# Altium schematic symbol library WR-WTB_2.00mm.SchLib: 70 symbols (part 2 of 2)
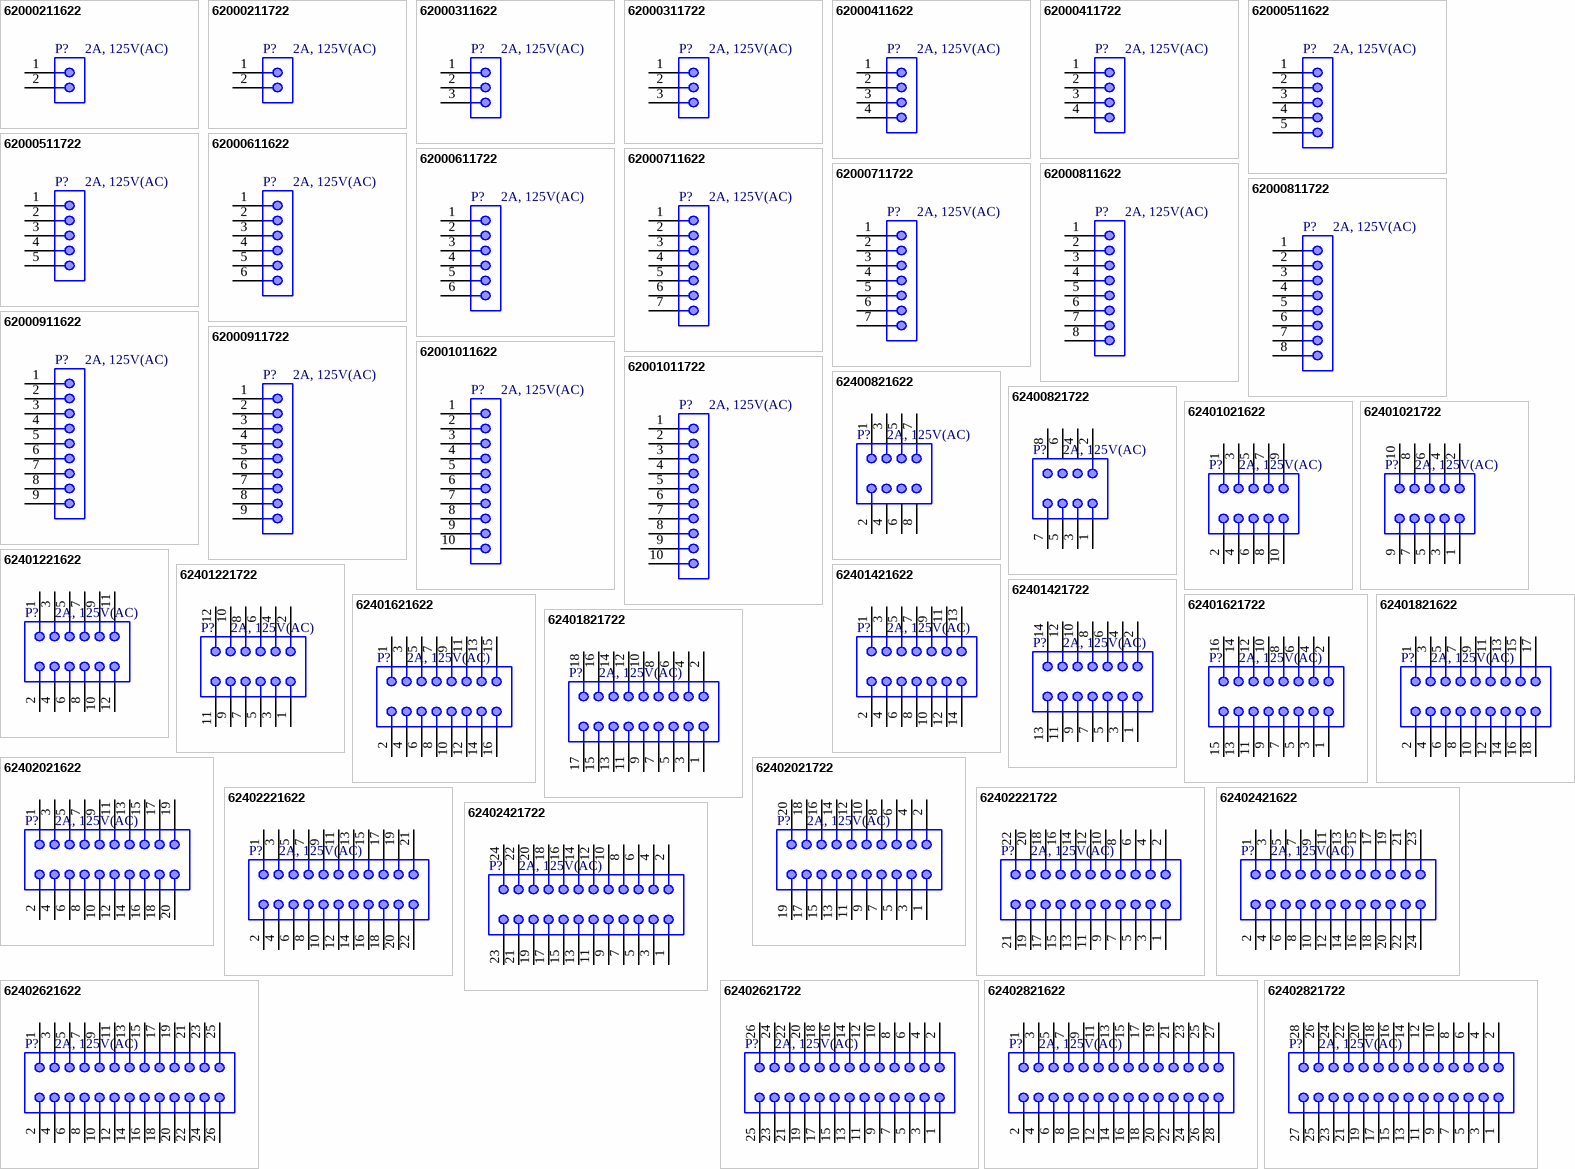
[diagram p2: symbols 62000211622 to 62402821722]

## 62402621722
designator P?, comment 2A, 125V(AC)
WR-WTB THT Male Horizontal Shrouded Header with positive locking, Dual Row, pitch 2mm, 26p; Part Number: 62402621722; Pin Number: 26; Contact Resistance: 20mOhm; Rated Current: 3A; Withstanding Voltage: 1000VAC; Working Voltage: 250VAC; ComponentLink1Description: Manufacturer; ComponentLink1URL: http://www.we-online.de; ComponentLink2Description: Datasheet; ComponentLink2URL: https://www.we-online.com/catalog/datasheet/62402621722.pdf; Pitch: 2mm; Published Date: January 2020; Publisher: Wurth Elektronik; Mounting Technology: THT; Packaging: Tube; Operating Temperature: -25 to +85degC; Gender: Male; Type: Horizontal; ComponentLink3Description: Global Supply; ComponentLink3URL: https://www.we-online.com/en/components/products/WTB_2_00_MALE_DUAL_ROW_HORIZONTAL_SHROUDED_HEADER_W_POSITIVE_LOCKING_6240XX21722?sq=62402621722#62402621722; ComponentLink4Description: Global Supply; ComponentLink4URL: https://www.mouser.vn/ProductDetail/Wurth-Elektronik/62402621722?qs=E2PpAYvlWVtxgm9luf8cXA%3D%3D; Supplier 1 Name: Mouser; Supplier 1 SN: 710-62402621722; Supplier 1 URL: https://www.mouser.vn/ProductDetail/Wurth-Elektronik/62402621722?qs=E2PpAYvlWVtxgm9luf8cXA%3D%3D; Supplier 2 Name: Digi-Key; Supplier 2 SN: N/A; Supplier 2 URL: N/A; Supplier 3 Name: thegioiic; Supplier 3 SN: N/A; Supplier 3 URL: N/A; Value: 2A, 125V(AC)
footprint 62402621722
pins: 1, 2, 3, 4, 5, 6, 7, 8, 9, 10, 11, 12, 13, 14, 15, 16, 17, 18, 19, 20, 21, 22, 23, 24, 25, 26

## 62402821622
designator P?, comment 2A, 125V(AC)
WR-WTB THT Male Vertical Shrouded Header with positive locking, Dual Row, pitch 2mm, 28p; Part Number: 62402821622; Pin Number: 28; Contact Resistance: 20mOhm; Rated Current: 3A; Withstanding Voltage: 1000VAC; Working Voltage: 250VAC; ComponentLink1Description: Manufacturer; ComponentLink1URL: http://www.we-online.de; ComponentLink2Description: Datasheet; ComponentLink2URL: https://www.we-online.com/catalog/datasheet/62402821622.pdf; Pitch: 2mm; Published Date: January 2020; Publisher: Wurth Elektronik; Mounting Technology: THT; Packaging: Tube; Operating Temperature: -25 to +85degC; Gender: Male; Type: Vertical; ComponentLink3Description: Global Supply; ComponentLink3URL: https://www.we-online.com/en/components/products/WTB_2_00_MALE_DUAL_ROW_VERTICAL_SHROUDED_HEADER_W_POSITIVE_LOCKING_6240XX21622?sq=62402821622#62402821622; ComponentLink4Description: Global Supply; ComponentLink4URL: https://www.mouser.vn/ProductDetail/Wurth-Elektronik/62402821622?qs=E2PpAYvlWVv641KfY3U4Cg%3D%3D; Supplier 1 Name: Mouser; Supplier 1 SN: 710-62402821622; Supplier 1 URL: https://www.mouser.vn/ProductDetail/Wurth-Elektronik/62402821622?qs=E2PpAYvlWVv641KfY3U4Cg%3D%3D; Supplier 2 Name: Digi-Key; Supplier 2 SN: N/A; Supplier 2 URL: N/A; Supplier 3 Name: thegioiic; Supplier 3 SN: N/A; Supplier 3 URL: N/A; Value: 2A, 125V(AC)
footprint 62402821622
pins: 1, 2, 3, 4, 5, 6, 7, 8, 9, 10, 11, 12, 13, 14, 15, 16, 17, 18, 19, 20, 21, 22, 23, 24, 25, 26, 27, 28

## 62402821722
designator P?, comment 2A, 125V(AC)
WR-WTB THT Male Horizontal Shrouded Header with positive locking, Dual Row, pitch 2mm, 28p; Part Number: 62402821722; Pin Number: 28; Contact Resistance: 20mOhm; Rated Current: 3A; Withstanding Voltage: 1000VAC; Working Voltage: 250VAC; ComponentLink1Description: Manufacturer; ComponentLink1URL: http://www.we-online.de; ComponentLink2Description: Datasheet; ComponentLink2URL: https://www.we-online.com/catalog/datasheet/62402821722.pdf; Pitch: 2mm; Published Date: January 2020; Publisher: Wurth Elektronik; Mounting Technology: THT; Packaging: Tube; Operating Temperature: -25 to +85degC; Gender: Male; Type: Horizontal; ComponentLink3Description: Global Supply; ComponentLink3URL: https://www.we-online.com/en/components/products/WTB_2_00_MALE_DUAL_ROW_HORIZONTAL_SHROUDED_HEADER_W_POSITIVE_LOCKING_6240XX21722?sq=62402821722#62402821722; ComponentLink4Description: Global Supply; ComponentLink4URL: https://www.mouser.vn/ProductDetail/Wurth-Elektronik/62402821722?qs=E2PpAYvlWVv3ea%252BrjDfuiw%3D%3D; Supplier 1 Name: Mouser; Supplier 1 SN: 710-62402821722; Supplier 1 URL: https://www.mouser.vn/ProductDetail/Wurth-Elektronik/62402821722?qs=E2PpAYvlWVv3ea%252BrjDfuiw%3D%3D; Supplier 2 Name: Digi-Key; Supplier 2 SN: N/A; Supplier 2 URL: N/A; Supplier 3 Name: thegioiic; Supplier 3 SN: N/A; Supplier 3 URL: N/A; Value: 2A, 125V(AC)
footprint 62402821722
pins: 1, 2, 3, 4, 5, 6, 7, 8, 9, 10, 11, 12, 13, 14, 15, 16, 17, 18, 19, 20, 21, 22, 23, 24, 25, 26, 27, 28

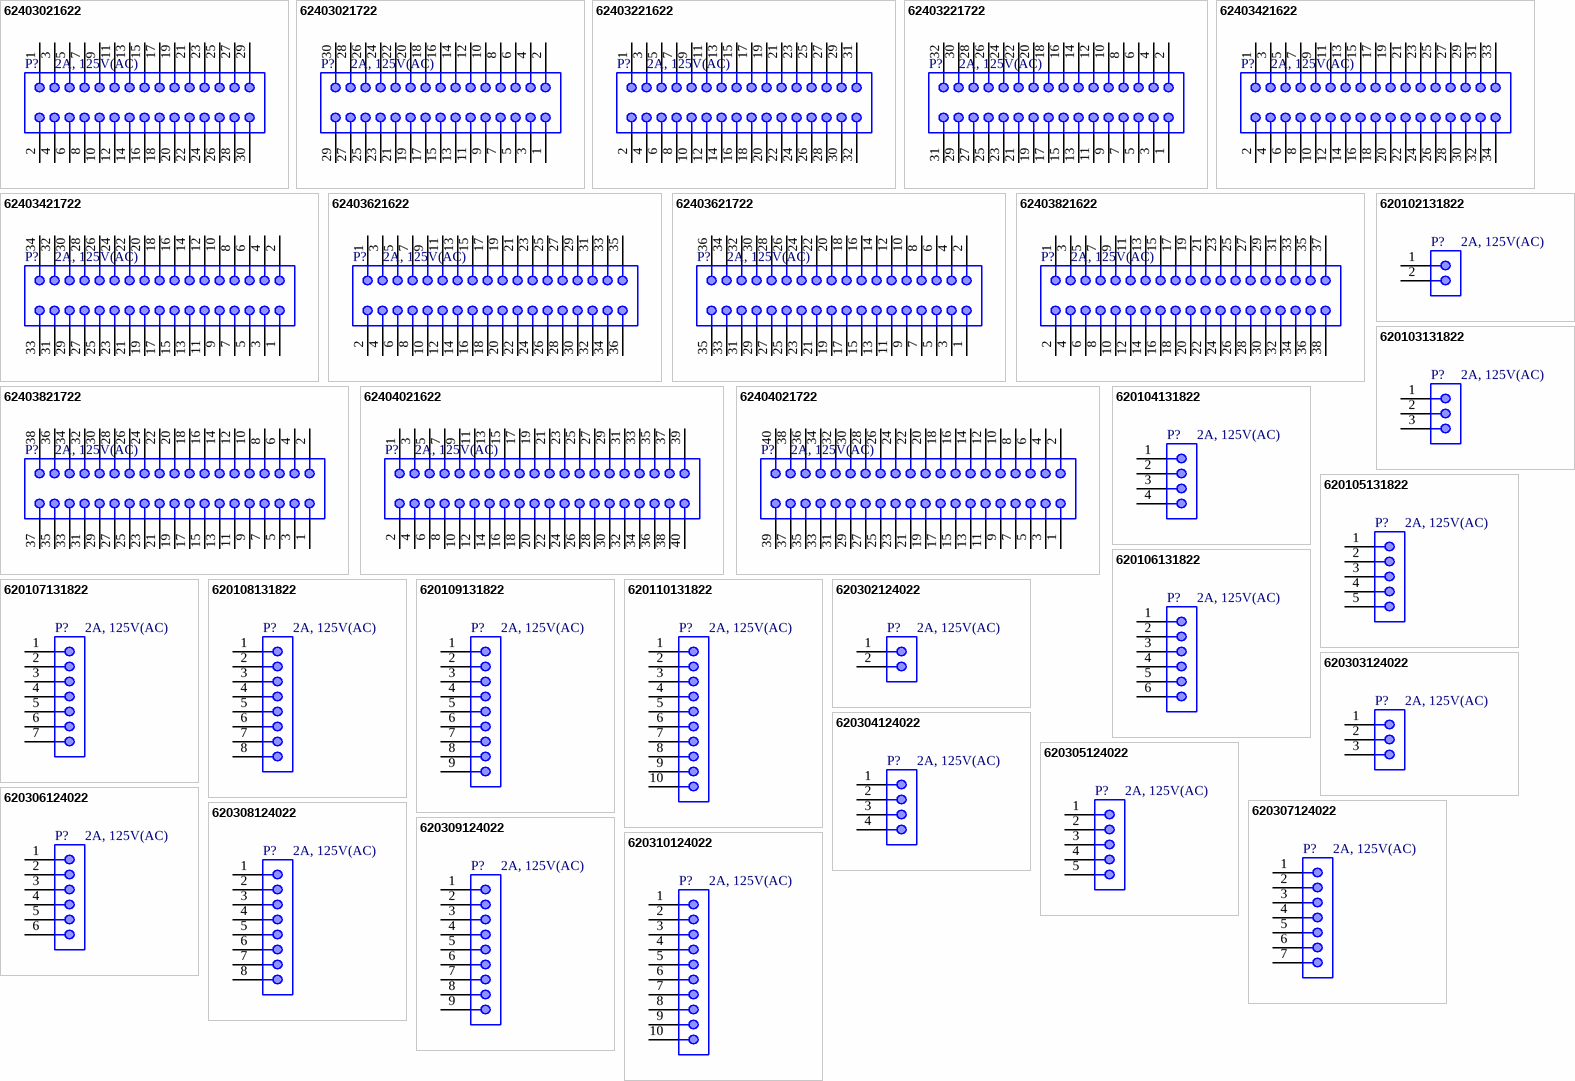
[diagram p1: symbols 62403021622 to 620310124022]

## 62403021622
designator P?, comment 2A, 125V(AC)
WR-WTB THT Male Vertical Shrouded Header with positive locking, Dual Row, pitch 2mm, 30p; Part Number: 62403021622; Pin Number: 30; Contact Resistance: 20mOhm; Rated Current: 3A; Withstanding Voltage: 1000VAC; Working Voltage: 250VAC; ComponentLink1Description: Manufacturer; ComponentLink1URL: http://www.we-online.de; ComponentLink2Description: Datasheet; ComponentLink2URL: https://www.we-online.com/catalog/datasheet/62403021622.pdf; Pitch: 2mm; Published Date: January 2020; Publisher: Wurth Elektronik; Mounting Technology: THT; Packaging: Tube; Operating Temperature: -25 to +85degC; Gender: Male; Type: Vertical; ComponentLink3Description: Global Supply; ComponentLink3URL: https://www.we-online.com/en/components/products/WTB_2_00_MALE_DUAL_ROW_VERTICAL_SHROUDED_HEADER_W_POSITIVE_LOCKING_6240XX21622?sq=62403021622#62403021622; ComponentLink4Description: Global Supply; ComponentLink4URL: https://www.mouser.vn/ProductDetail/Wurth-Elektronik/62403021622?qs=E2PpAYvlWVt5zQplzHgovA%3D%3D; Supplier 1 Name: Mouser; Supplier 1 SN: 710-62403021622; Supplier 1 URL: https://www.mouser.vn/ProductDetail/Wurth-Elektronik/62403021622?qs=E2PpAYvlWVt5zQplzHgovA%3D%3D; Supplier 2 Name: Digi-Key; Supplier 2 SN: N/A; Supplier 2 URL: N/A; Supplier 3 Name: thegioiic; Supplier 3 SN: N/A; Supplier 3 URL: N/A; Value: 2A, 125V(AC)
footprint 62403021622
pins: 1, 2, 3, 4, 5, 6, 7, 8, 9, 10, 11, 12, 13, 14, 15, 16, 17, 18, 19, 20, 21, 22, 23, 24, 25, 26, 27, 28, 29, 30

## 62403021722
designator P?, comment 2A, 125V(AC)
WR-WTB THT Male Horizontal Shrouded Header with positive locking, Dual Row, pitch 2mm, 30p; Part Number: 62403021722; Pin Number: 30; Contact Resistance: 20mOhm; Rated Current: 3A; Withstanding Voltage: 1000VAC; Working Voltage: 250VAC; ComponentLink1Description: Manufacturer; ComponentLink1URL: http://www.we-online.de; ComponentLink2Description: Datasheet; ComponentLink2URL: https://www.we-online.com/catalog/datasheet/62403021722.pdf; Pitch: 2mm; Published Date: January 2020; Publisher: Wurth Elektronik; Mounting Technology: THT; Packaging: Tube; Operating Temperature: -25 to +85degC; Gender: Male; Type: Horizontal; ComponentLink3Description: Global Supply; ComponentLink3URL: https://www.we-online.com/en/components/products/WTB_2_00_MALE_DUAL_ROW_HORIZONTAL_SHROUDED_HEADER_W_POSITIVE_LOCKING_6240XX21722?sq=62403021722#62403021722; ComponentLink4Description: Global Supply; ComponentLink4URL: https://www.mouser.vn/ProductDetail/Wurth-Elektronik/62403021722?qs=E2PpAYvlWVtn05zHywk89g%3D%3D; Supplier 1 Name: Mouser; Supplier 1 SN: 710-62403021722; Supplier 1 URL: https://www.mouser.vn/ProductDetail/Wurth-Elektronik/62403021722?qs=E2PpAYvlWVtn05zHywk89g%3D%3D; Supplier 2 Name: Digi-Key; Supplier 2 SN: N/A; Supplier 2 URL: N/A; Supplier 3 Name: thegioiic; Supplier 3 SN: N/A; Supplier 3 URL: N/A; Value: 2A, 125V(AC)
footprint 62403021722
pins: 1, 2, 3, 4, 5, 6, 7, 8, 9, 10, 11, 12, 13, 14, 15, 16, 17, 18, 19, 20, 21, 22, 23, 24, 25, 26, 27, 28, 29, 30

## 62403221622
designator P?, comment 2A, 125V(AC)
WR-WTB THT Male Vertical Shrouded Header with positive locking, Dual Row, pitch 2mm, 32p; Part Number: 62403221622; Pin Number: 32; Contact Resistance: 20mOhm; Rated Current: 3A; Withstanding Voltage: 1000VAC; Working Voltage: 250VAC; ComponentLink1Description: Manufacturer; ComponentLink1URL: http://www.we-online.de; ComponentLink2Description: Datasheet; ComponentLink2URL: https://www.we-online.com/catalog/datasheet/62403221622.pdf; Pitch: 2mm; Published Date: January 2020; Publisher: Wurth Elektronik; Mounting Technology: THT; Packaging: Tube; Operating Temperature: -25 to +85degC; Gender: Male; Type: Vertical; ComponentLink3Description: Global Supply; ComponentLink3URL: https://www.we-online.com/en/components/products/WTB_2_00_MALE_DUAL_ROW_VERTICAL_SHROUDED_HEADER_W_POSITIVE_LOCKING_6240XX21622?sq=62403221622#62403221622; ComponentLink4Description: Global Supply; ComponentLink4URL: https://www.mouser.vn/ProductDetail/Wurth-Elektronik/62403221622?qs=2kOmHSv6VfTqmjxA2Zf7fA%3D%3D; Supplier 1 Name: Mouser; Supplier 1 SN: 710-62403221622; Supplier 1 URL: https://www.mouser.vn/ProductDetail/Wurth-Elektronik/62403221622?qs=2kOmHSv6VfTqmjxA2Zf7fA%3D%3D; Supplier 2 Name: Digi-Key; Supplier 2 SN: N/A; Supplier 2 URL: N/A; Supplier 3 Name: thegioiic; Supplier 3 SN: N/A; Supplier 3 URL: N/A; Value: 2A, 125V(AC)
footprint 62403221622
pins: 1, 2, 3, 4, 5, 6, 7, 8, 9, 10, 11, 12, 13, 14, 15, 16, 17, 18, 19, 20, 21, 22, 23, 24, 25, 26, 27, 28, 29, 30, 31, 32

## 62403221722
designator P?, comment 2A, 125V(AC)
WR-WTB THT Male Horizontal Shrouded Header with positive locking, Dual Row, pitch 2mm, 32p; Part Number: 62403221722; Pin Number: 32; Contact Resistance: 20mOhm; Rated Current: 3A; Withstanding Voltage: 1000VAC; Working Voltage: 250VAC; ComponentLink1Description: Manufacturer; ComponentLink1URL: http://www.we-online.de; ComponentLink2Description: Datasheet; ComponentLink2URL: https://www.we-online.com/catalog/datasheet/62403221722.pdf; Pitch: 2mm; Published Date: January 2020; Publisher: Wurth Elektronik; Mounting Technology: THT; Packaging: Tube; Operating Temperature: -25 to +85degC; Gender: Male; Type: Horizontal; ComponentLink3Description: Global Supply; ComponentLink3URL: https://www.we-online.com/en/components/products/WTB_2_00_MALE_DUAL_ROW_HORIZONTAL_SHROUDED_HEADER_W_POSITIVE_LOCKING_6240XX21722?sq=62403221722#62403221722; ComponentLink4Description: Global Supply; ComponentLink4URL: https://www.mouser.vn/ProductDetail/Wurth-Elektronik/62403221722?qs=E2PpAYvlWVtsAhmCM%252BjOAQ%3D%3D; Supplier 1 Name: Mouser; Supplier 1 SN: 710-62403221722; Supplier 1 URL: https://www.mouser.vn/ProductDetail/Wurth-Elektronik/62403221722?qs=E2PpAYvlWVtsAhmCM%252BjOAQ%3D%3D; Supplier 2 Name: Digi-Key; Supplier 2 SN: N/A; Supplier 2 URL: N/A; Supplier 3 Name: thegioiic; Supplier 3 SN: N/A; Supplier 3 URL: N/A; Value: 2A, 125V(AC)
footprint 62403221722
pins: 1, 2, 3, 4, 5, 6, 7, 8, 9, 10, 11, 12, 13, 14, 15, 16, 17, 18, 19, 20, 21, 22, 23, 24, 25, 26, 27, 28, 29, 30, 31, 32

## 62403421622
designator P?, comment 2A, 125V(AC)
WR-WTB THT Male Vertical Shrouded Header with positive locking, Dual Row, pitch 2mm, 34p; Part Number: 62403421622; Pin Number: 34; Contact Resistance: 20mOhm; Rated Current: 3A; Withstanding Voltage: 1000VAC; Working Voltage: 250VAC; ComponentLink1Description: Manufacturer; ComponentLink1URL: http://www.we-online.de; ComponentLink2Description: Datasheet; ComponentLink2URL: https://www.we-online.com/catalog/datasheet/62403421622.pdf; Pitch: 2mm; Published Date: January 2020; Publisher: Wurth Elektronik; Mounting Technology: THT; Packaging: Tube; Operating Temperature: -25 to +85degC; Gender: Male; Type: Vertical; ComponentLink3Description: Global Supply; ComponentLink3URL: https://www.we-online.com/en/components/products/WTB_2_00_MALE_DUAL_ROW_VERTICAL_SHROUDED_HEADER_W_POSITIVE_LOCKING_6240XX21622?sq=62403421622#62403421622; ComponentLink4Description: Global Supply; ComponentLink4URL: https://www.mouser.vn/ProductDetail/Wurth-Elektronik/62403421622?qs=E2PpAYvlWVtc1VgVK8vY4g%3D%3D; Supplier 1 Name: Mouser; Supplier 1 SN: 710-62403421622; Supplier 1 URL: https://www.mouser.vn/ProductDetail/Wurth-Elektronik/62403421622?qs=E2PpAYvlWVtc1VgVK8vY4g%3D%3D; Supplier 2 Name: Digi-Key; Supplier 2 SN: N/A; Supplier 2 URL: N/A; Supplier 3 Name: thegioiic; Supplier 3 SN: N/A; Supplier 3 URL: N/A; Value: 2A, 125V(AC)
footprint 62403421622
pins: 1, 2, 3, 4, 5, 6, 7, 8, 9, 10, 11, 12, 13, 14, 15, 16, 17, 18, 19, 20, 21, 22, 23, 24, 25, 26, 27, 28, 29, 30, 31, 32, 33, 34

## 62403421722
designator P?, comment 2A, 125V(AC)
WR-WTB THT Male Horizontal Shrouded Header with positive locking, Dual Row, pitch 2mm, 34p; Part Number: 62403421722; Pin Number: 34; Contact Resistance: 20mOhm; Rated Current: 3A; Withstanding Voltage: 1000VAC; Working Voltage: 250VAC; ComponentLink1Description: Manufacturer; ComponentLink1URL: http://www.we-online.de; ComponentLink2Description: Datasheet; ComponentLink2URL: https://www.we-online.com/catalog/datasheet/62403421722.pdf; Pitch: 2mm; Published Date: January 2020; Publisher: Wurth Elektronik; Mounting Technology: THT; Packaging: Tube; Operating Temperature: -25 to +85degC; Gender: Male; Type: Horizontal; ComponentLink3Description: Global Supply; ComponentLink3URL: https://www.we-online.com/en/components/products/WTB_2_00_MALE_DUAL_ROW_HORIZONTAL_SHROUDED_HEADER_W_POSITIVE_LOCKING_6240XX21722?sq=62403421722#62403421722; ComponentLink4Description: Global Supply; ComponentLink4URL: https://www.mouser.vn/ProductDetail/Wurth-Elektronik/62403421722?qs=E2PpAYvlWVuzbyQa%252BDEmaQ%3D%3D; Supplier 1 Name: Mouser; Supplier 1 SN: 710-62403421722; Supplier 1 URL: https://www.mouser.vn/ProductDetail/Wurth-Elektronik/62403421722?qs=E2PpAYvlWVuzbyQa%252BDEmaQ%3D%3D; Supplier 2 Name: Digi-Key; Supplier 2 SN: N/A; Supplier 2 URL: N/A; Supplier 3 Name: thegioiic; Supplier 3 SN: N/A; Supplier 3 URL: N/A; Value: 2A, 125V(AC)
footprint 62403421722
pins: 1, 2, 3, 4, 5, 6, 7, 8, 9, 10, 11, 12, 13, 14, 15, 16, 17, 18, 19, 20, 21, 22, 23, 24, 25, 26, 27, 28, 29, 30, 31, 32, 33, 34

## 62403621622
designator P?, comment 2A, 125V(AC)
WR-WTB THT Male Vertical Shrouded Header with positive locking, Dual Row, pitch 2mm, 36p; Part Number: 62403621622; Pin Number: 36; Contact Resistance: 20mOhm; Rated Current: 3A; Withstanding Voltage: 1000VAC; Working Voltage: 250VAC; ComponentLink1Description: Manufacturer; ComponentLink1URL: http://www.we-online.de; ComponentLink2Description: Datasheet; ComponentLink2URL: https://www.we-online.com/catalog/datasheet/62403621622.pdf; Pitch: 2mm; Published Date: January 2020; Publisher: Wurth Elektronik; Mounting Technology: THT; Packaging: Tube; Operating Temperature: -25 to +85degC; Gender: Male; Type: Vertical; ComponentLink3Description: Global Supply; ComponentLink3URL: https://www.we-online.com/en/components/products/WTB_2_00_MALE_DUAL_ROW_VERTICAL_SHROUDED_HEADER_W_POSITIVE_LOCKING_6240XX21622?sq=62403621622#62403621622; ComponentLink4Description: Global Supply; ComponentLink4URL: https://www.mouser.vn/ProductDetail/Wurth-Elektronik/62403621622?qs=E2PpAYvlWVvAYw5bAOFHvw%3D%3D; Supplier 1 Name: Mouser; Supplier 1 SN: 710-62403621622; Supplier 1 URL: https://www.mouser.vn/ProductDetail/Wurth-Elektronik/62403621622?qs=E2PpAYvlWVvAYw5bAOFHvw%3D%3D; Supplier 2 Name: Digi-Key; Supplier 2 SN: N/A; Supplier 2 URL: N/A; Supplier 3 Name: thegioiic; Supplier 3 SN: N/A; Supplier 3 URL: N/A; Value: 2A, 125V(AC)
footprint 62403621622
pins: 1, 2, 3, 4, 5, 6, 7, 8, 9, 10, 11, 12, 13, 14, 15, 16, 17, 18, 19, 20, 21, 22, 23, 24, 25, 26, 27, 28, 29, 30, 31, 32, 33, 34, 35, 36

## 62403621722
designator P?, comment 2A, 125V(AC)
WR-WTB THT Male Horizontal Shrouded Header with positive locking, Dual Row, pitch 2mm, 36p; Part Number: 62403621722; Pin Number: 36; Contact Resistance: 20mOhm; Rated Current: 3A; Withstanding Voltage: 1000VAC; Working Voltage: 250VAC; ComponentLink1Description: Manufacturer; ComponentLink1URL: http://www.we-online.de; ComponentLink2Description: Datasheet; ComponentLink2URL: https://www.we-online.com/catalog/datasheet/62403621722.pdf; Pitch: 2mm; Published Date: January 2020; Publisher: Wurth Elektronik; Mounting Technology: THT; Packaging: Tube; Operating Temperature: -25 to +85degC; Gender: Male; Type: Horizontal; ComponentLink3Description: Global Supply; ComponentLink3URL: https://www.we-online.com/en/components/products/WTB_2_00_MALE_DUAL_ROW_HORIZONTAL_SHROUDED_HEADER_W_POSITIVE_LOCKING_6240XX21722?sq=62403621722#62403621722; ComponentLink4Description: Global Supply; ComponentLink4URL: https://www.mouser.vn/ProductDetail/Wurth-Elektronik/62403621722?qs=E2PpAYvlWVvIGoKu41xmEw%3D%3D; Supplier 1 Name: Mouser; Supplier 1 SN: 710-62403621722; Supplier 1 URL: https://www.mouser.vn/ProductDetail/Wurth-Elektronik/62403621722?qs=E2PpAYvlWVvIGoKu41xmEw%3D%3D; Supplier 2 Name: Digi-Key; Supplier 2 SN: N/A; Supplier 2 URL: N/A; Supplier 3 Name: thegioiic; Supplier 3 SN: N/A; Supplier 3 URL: N/A; Value: 2A, 125V(AC)
footprint 62403621722
pins: 1, 2, 3, 4, 5, 6, 7, 8, 9, 10, 11, 12, 13, 14, 15, 16, 17, 18, 19, 20, 21, 22, 23, 24, 25, 26, 27, 28, 29, 30, 31, 32, 33, 34, 35, 36

## 62403821622
designator P?, comment 2A, 125V(AC)
WR-WTB THT Male Vertical Shrouded Header with positive locking, Dual Row, pitch 2mm, 38p; Part Number: 62403821622; Pin Number: 38; Contact Resistance: 20mOhm; Rated Current: 3A; Withstanding Voltage: 1000VAC; Working Voltage: 250VAC; ComponentLink1Description: Manufacturer; ComponentLink1URL: http://www.we-online.de; ComponentLink2Description: Datasheet; ComponentLink2URL: https://www.we-online.com/catalog/datasheet/62403821622.pdf; Pitch: 2mm; Published Date: January 2020; Publisher: Wurth Elektronik; Mounting Technology: THT; Packaging: Tube; Operating Temperature: -25 to +85degC; Gender: Male; Type: Vertical; ComponentLink3Description: Global Supply; ComponentLink3URL: https://www.we-online.com/en/components/products/WTB_2_00_MALE_DUAL_ROW_VERTICAL_SHROUDED_HEADER_W_POSITIVE_LOCKING_6240XX21622?sq=62403821622#62403821622; ComponentLink4Description: Global Supply; ComponentLink4URL: https://www.mouser.vn/ProductDetail/Wurth-Elektronik/62403821622?qs=E2PpAYvlWVt5WbTSUsixqA%3D%3D; Supplier 1 Name: Mouser; Supplier 1 SN: 710-62403821622; Supplier 1 URL: https://www.mouser.vn/ProductDetail/Wurth-Elektronik/62403821622?qs=E2PpAYvlWVt5WbTSUsixqA%3D%3D; Supplier 2 Name: Digi-Key; Supplier 2 SN: N/A; Supplier 2 URL: N/A; Supplier 3 Name: thegioiic; Supplier 3 SN: N/A; Supplier 3 URL: N/A; Value: 2A, 125V(AC)
footprint 62403821622
pins: 1, 2, 3, 4, 5, 6, 7, 8, 9, 10, 11, 12, 13, 14, 15, 16, 17, 18, 19, 20, 21, 22, 23, 24, 25, 26, 27, 28, 29, 30, 31, 32, 33, 34, 35, 36, 37, 38

## 62403821722
designator P?, comment 2A, 125V(AC)
WR-WTB THT Male Horizontal Shrouded Header with positive locking, Dual Row, pitch 2mm, 38p; Part Number: 62403821722; Pin Number: 38; Contact Resistance: 20mOhm; Rated Current: 3A; Withstanding Voltage: 1000VAC; Working Voltage: 250VAC; ComponentLink1Description: Manufacturer; ComponentLink1URL: http://www.we-online.de; ComponentLink2Description: Datasheet; ComponentLink2URL: https://www.we-online.com/catalog/datasheet/62403821722.pdf; Pitch: 2mm; Published Date: January 2020; Publisher: Wurth Elektronik; Mounting Technology: THT; Packaging: Tube; Operating Temperature: -25 to +85degC; Gender: Male; Type: Horizontal; ComponentLink3Description: Global Supply; ComponentLink3URL: https://www.we-online.com/en/components/products/WTB_2_00_MALE_DUAL_ROW_HORIZONTAL_SHROUDED_HEADER_W_POSITIVE_LOCKING_6240XX21722?sq=62403821722#62403821722; ComponentLink4Description: Global Supply; ComponentLink4URL: https://www.mouser.vn/ProductDetail/Wurth-Elektronik/62403821722?qs=E2PpAYvlWVtfTqKNzPO8Uw%3D%3D; Supplier 1 Name: Mouser; Supplier 1 SN: 710-62403821722; Supplier 1 URL: https://www.mouser.vn/ProductDetail/Wurth-Elektronik/62403821722?qs=E2PpAYvlWVtfTqKNzPO8Uw%3D%3D; Supplier 2 Name: Digi-Key; Supplier 2 SN: N/A; Supplier 2 URL: N/A; Supplier 3 Name: thegioiic; Supplier 3 SN: N/A; Supplier 3 URL: N/A; Value: 2A, 125V(AC)
footprint 62403821722
pins: 1, 2, 3, 4, 5, 6, 7, 8, 9, 10, 11, 12, 13, 14, 15, 16, 17, 18, 19, 20, 21, 22, 23, 24, 25, 26, 27, 28, 29, 30, 31, 32, 33, 34, 35, 36, 37, 38

## 62404021622
designator P?, comment 2A, 125V(AC)
WR-WTB THT Male Vertical Shrouded Header with positive locking, Dual Row, pitch 2mm, 40p; Part Number: 62404021622; Pin Number: 40; Contact Resistance: 20mOhm; Rated Current: 3A; Withstanding Voltage: 1000VAC; Working Voltage: 250VAC; ComponentLink1Description: Manufacturer; ComponentLink1URL: http://www.we-online.de; ComponentLink2Description: Datasheet; ComponentLink2URL: https://www.we-online.com/catalog/datasheet/62404021622.pdf; Pitch: 2mm; Published Date: January 2020; Publisher: Wurth Elektronik; Mounting Technology: THT; Packaging: Tube; Operating Temperature: -25 to +85degC; Gender: Male; Type: Vertical; ComponentLink3Description: Global Supply; ComponentLink3URL: https://www.we-online.com/en/components/products/WTB_2_00_MALE_DUAL_ROW_VERTICAL_SHROUDED_HEADER_W_POSITIVE_LOCKING_6240XX21622?sq=62404021622#62404021622; ComponentLink4Description: Global Supply; ComponentLink4URL: https://www.mouser.vn/ProductDetail/Wurth-Elektronik/62403821622?qs=E2PpAYvlWVt5WbTSUsixqA%3D%3Dhttps://www.mouser.vn/ProductDetail/Wurth-Elektronik/62403821622?qs=E2PpAYvlWVt5WbTSUsixqA%3D%3Dhttps://www.mouser.vn/ProductDetail/Wurth-Elektronik/62403821622?qs=E2PpAYvlWVt5WbTSUsixqA%3D%3Dhttps://www.mouser.vn/ProductDetail/Wurth-Elektronik/62403821622?qs=E2PpAYvlWVt5WbTSUsixqA%3D%3Dhttps://www.mouser.vn/ProductDetail/Wurth-Elektronik/62403821622?qs=E2PpAYvlWVt5WbTSUsixqA%3D%3Dhttps://www.mouser.vn/ProductDetail/Wurth-Elektronik/62403821622?qs=E2PpAYvlWVt5WbTSUsixqA%3D%3Dhttps://www.mouser.vn/ProductDetail/Wurth-Elektronik/62403821622?qs=E2PpAYvlWVt5WbTSUsixqA%3D%3Dhttps://www.mouser.vn/ProductDetail/Wurth-Elektronik/62403821622?qs=E2PpAYvlWVt5WbTSUsixqA%3D%3Dhttps://www.mouser.vn/ProductDetail/Wurth-Elektronik/62403821622?qs=E2PpAYvlWVt5WbTSUsixqA%3D%3Dhttps://www.mouser.vn/ProductDetail/Wurth-Elektronik/62403821622?qs=E2PpAYvlWVt5WbTSUsixqA%3D%3Dhttps://www.mouser.vn/ProductDetail/Wurth-Elektronik/62403821622?qs=E2PpAYvlWVt5WbTSUsixqA%3D%3Dhttps://www.mouser.vn/ProductDetail/Wurth-Elektronik/62403821622?qs=E2PpAYvlWVt5WbTSUsixqA%3D%3Dhttps://www.mouser.vn/ProductDetail/Wurth-Elektronik/62403821622?qs=E2PpAYvlWVt5WbTSUsixqA%3D%3D; Supplier 1 Name: Mouser; Supplier 1 SN: 710-62403821622; Supplier 1 URL: https://www.mouser.vn/ProductDetail/Wurth-Elektronik/62403821622?qs=E2PpAYvlWVt5WbTSUsixqA%3D%3D; Supplier 2 Name: Digi-Key; Supplier 2 SN: N/A; Supplier 2 URL: N/A; Supplier 3 Name: thegioiic; Supplier 3 SN: N/A; Supplier 3 URL: N/A; Value: 2A, 125V(AC)
footprint 62404021622
pins: 1, 2, 3, 4, 5, 6, 7, 8, 9, 10, 11, 12, 13, 14, 15, 16, 17, 18, 19, 20, 21, 22, 23, 24, 25, 26, 27, 28, 29, 30, 31, 32, 33, 34, 35, 36, 37, 38, 39, 40

## 62404021722
designator P?, comment 2A, 125V(AC)
WR-WTB THT Male Horizontal Shrouded Header with positive locking, Dual Row, pitch 2mm, 40p; Part Number: 62404021722; Pin Number: 40; Contact Resistance: 20mOhm; Rated Current: 3A; Withstanding Voltage: 1000VAC; Working Voltage: 250VAC; ComponentLink1Description: Manufacturer; ComponentLink1URL: http://www.we-online.de; ComponentLink2Description: Datasheet; ComponentLink2URL: https://www.we-online.com/catalog/datasheet/62404021722.pdf; Pitch: 2mm; Published Date: January 2020; Publisher: Wurth Elektronik; Mounting Technology: THT; Packaging: Tube; Operating Temperature: -25 to +85degC; Gender: Male; Type: Horizontal; ComponentLink3Description: Global Supply; ComponentLink3URL: https://www.we-online.com/en/components/products/WTB_2_00_MALE_DUAL_ROW_HORIZONTAL_SHROUDED_HEADER_W_POSITIVE_LOCKING_6240XX21722?sq=62404021722#62404021722; ComponentLink4Description: Local Supply; ComponentLink4URL: https://www.mouser.vn/ProductDetail/Wurth-Elektronik/62404021722?qs=E2PpAYvlWVu8c5h%2F6qYDyA%3D%3D; Supplier 1 Name: Mouser; Supplier 1 SN: 710-62404021722; Supplier 1 URL: https://www.mouser.vn/ProductDetail/Wurth-Elektronik/62404021722?qs=E2PpAYvlWVu8c5h%2F6qYDyA%3D%3D; Supplier 2 Name: Digi-Key; Supplier 2 SN: N/A; Supplier 2 URL: N/A; Supplier 3 Name: thegioiic; Supplier 3 SN: N/A; Supplier 3 URL: N/A; Value: 2A, 125V(AC)
footprint 62404021722
pins: 1, 2, 3, 4, 5, 6, 7, 8, 9, 10, 11, 12, 13, 14, 15, 16, 17, 18, 19, 20, 21, 22, 23, 24, 25, 26, 27, 28, 29, 30, 31, 32, 33, 34, 35, 36, 37, 38, 39, 40

## 620102131822
designator P?, comment 2A, 125V(AC)
WR-WTB SMT Male Horizontal Shrouded Header, pitch 2mm, 2p; Part Number: 620102131822; Pin Number: 2; Contact Resistance: 20mOhm; Withstanding Voltage: 800VAC; Working Voltage: 100VAC; ComponentLink1Description: Manufacturer; ComponentLink1URL: http://www.we-online.de; ComponentLink2Description: Datasheet; ComponentLink2URL: https://www.we-online.com/catalog/datasheet/620102131822.pdf; Pitch: 2mm; Published Date: January 2020; Publisher: Wurth Elektronik; Mounting Technology: SMT; Packaging: Tape and Reel; Operating Temperature: -25 to +85degC; Gender: Male; Type: Horizontal; Rated Current: 2A; ComponentLink3Description: Global Supply; ComponentLink3URL: https://www.we-online.com/en/components/products/WTB_2_00_SMT_MALE_HORIZONTAL_SHROUDED_HEADER_6201XX131822?sq=620102131822#620102131822; ComponentLink4Description: Global Supply; ComponentLink4URL: https://www.mouser.vn/ProductDetail/Wurth-Elektronik/620102131822?qs=ZtY9WdtwX54K2dkLvxjzuQ%3D%3D; Supplier 1 Name: Mouser; Supplier 1 SN: 710-620102131822; Supplier 1 URL: https://www.mouser.vn/ProductDetail/Wurth-Elektronik/620102131822?qs=ZtY9WdtwX54K2dkLvxjzuQ%3D%3D; Supplier 2 Name: Digi-Key; Supplier 2 SN: N/A; Supplier 2 URL: N/A; Supplier 3 Name: thegioiic; Supplier 3 SN: N/A; Supplier 3 URL: N/A; Value: 2A, 125V(AC)
footprint 620102131822
pins: 1, 2

## 620103131822
designator P?, comment 2A, 125V(AC)
WR-WTB SMT Male Horizontal Shrouded Header, pitch 2mm, 3p; Part Number: 620103131822; Pin Number: 3; Contact Resistance: 20mOhm; Withstanding Voltage: 800VAC; Working Voltage: 100VAC; ComponentLink1Description: Manufacturer; ComponentLink1URL: http://www.we-online.de; ComponentLink2Description: Datasheet; ComponentLink2URL: https://www.we-online.com/catalog/datasheet/620103131822.pdf; Pitch: 2mm; Published Date: January 2020; Publisher: Wurth Elektronik; Mounting Technology: SMT; Packaging: Tape and Reel; Operating Temperature: -25 to +85degC; Gender: Male; Type: Horizontal; Rated Current: 2A; ComponentLink3Description: Global Supply; ComponentLink3URL: https://www.we-online.com/en/components/products/WTB_2_00_SMT_MALE_HORIZONTAL_SHROUDED_HEADER_6201XX131822?sq=620103131822#620103131822; ComponentLink4Description: Global Supply; ComponentLink4URL: https://www.mouser.vn/ProductDetail/Wurth-Elektronik/620103131822?qs=ZtY9WdtwX54jBicvPVEzcw%3D%3D; Supplier 1 Name: Mouser; Supplier 1 SN: 710-620103131822; Supplier 1 URL: https://www.mouser.vn/ProductDetail/Wurth-Elektronik/620103131822?qs=ZtY9WdtwX54jBicvPVEzcw%3D%3D; Supplier 2 Name: Digi-Key; Supplier 2 SN: N/A; Supplier 2 URL: N/A; Supplier 3 Name: thegioiic; Supplier 3 SN: N/A; Supplier 3 URL: N/A; Value: 2A, 125V(AC)
footprint 620103131822
pins: 1, 2, 3

## 620104131822
designator P?, comment 2A, 125V(AC)
WR-WTB SMT Male Horizontal Shrouded Header, pitch 2mm, 4p; Part Number: 620104131822; Pin Number: 4; Contact Resistance: 20mOhm; Withstanding Voltage: 800VAC; Working Voltage: 100VAC; ComponentLink1Description: Manufacturer; ComponentLink1URL: http://www.we-online.de; ComponentLink2Description: Datasheet; ComponentLink2URL: https://www.we-online.com/catalog/datasheet/620104131822.pdf; Pitch: 2mm; Published Date: January 2020; Publisher: Wurth Elektronik; Mounting Technology: SMT; Packaging: Tape and Reel; Operating Temperature: -25 to +85degC; Gender: Male; Type: Horizontal; Rated Current: 2A; ComponentLink3Description: Global Supply; ComponentLink3URL: https://www.we-online.com/en/components/products/WTB_2_00_SMT_MALE_HORIZONTAL_SHROUDED_HEADER_6201XX131822?sq=620104131822#620104131822; ComponentLink4Description: Global Supply; ComponentLink4URL: https://www.mouser.vn/ProductDetail/Wurth-Elektronik/620104131822?qs=ZtY9WdtwX57A7D%2FbILyVEQ%3D%3D; Supplier 1 Name: Mouser; Supplier 1 SN: 710-620104131822; Supplier 1 URL: https://www.mouser.vn/ProductDetail/Wurth-Elektronik/620104131822?qs=ZtY9WdtwX57A7D%2FbILyVEQ%3D%3D; Supplier 2 Name: Digi-Key; Supplier 2 SN: N/A; Supplier 2 URL: N/A; Supplier 3 Name: thegioiic; Supplier 3 SN: N/A; Supplier 3 URL: N/A; Value: 2A, 125V(AC)
footprint 620104131822
pins: 1, 2, 3, 4

## 620105131822
designator P?, comment 2A, 125V(AC)
WR-WTB SMT Male Horizontal Shrouded Header, pitch 2mm, 5p; Part Number: 620105131822; Pin Number: 5; Contact Resistance: 20mOhm; Withstanding Voltage: 800VAC; Working Voltage: 100VAC; ComponentLink1Description: Manufacturer; ComponentLink1URL: http://www.we-online.de; ComponentLink2Description: Datasheet; ComponentLink2URL: https://www.we-online.com/catalog/datasheet/620105131822.pdf; Pitch: 2mm; Published Date: January 2020; Publisher: Wurth Elektronik; Mounting Technology: SMT; Packaging: Tape and Reel; Operating Temperature: -25 to +85degC; Gender: Male; Type: Horizontal; Rated Current: 2A; ComponentLink3Description: Global Supply; ComponentLink3URL: https://www.we-online.com/en/components/products/WTB_2_00_SMT_MALE_HORIZONTAL_SHROUDED_HEADER_6201XX131822?sq=620105131822#620105131822; ComponentLink4Description: Global Supply; ComponentLink4URL: https://www.mouser.vn/ProductDetail/Wurth-Elektronik/620105131822?qs=ZtY9WdtwX54F%2Fgkpjaf7GA%3D%3D; Supplier 1 Name: Mouser; Supplier 1 SN: 710-620105131822; Supplier 1 URL: https://www.mouser.vn/ProductDetail/Wurth-Elektronik/620105131822?qs=ZtY9WdtwX54F%2Fgkpjaf7GA%3D%3D; Supplier 2 Name: Digi-Key; Supplier 2 SN: N/A; Supplier 2 URL: N/A; Supplier 3 Name: thegioiic; Supplier 3 SN: N/A; Supplier 3 URL: N/A; Value: 2A, 125V(AC)
footprint 620105131822
pins: 1, 2, 3, 4, 5

## 620106131822
designator P?, comment 2A, 125V(AC)
WR-WTB SMT Male Horizontal Shrouded Header, pitch 2mm, 6p; Part Number: 620106131822; Pin Number: 6; Contact Resistance: 20mOhm; Withstanding Voltage: 800VAC; Working Voltage: 100VAC; ComponentLink1Description: Manufacturer; ComponentLink1URL: http://www.we-online.de; ComponentLink2Description: Datasheet; ComponentLink2URL: https://www.we-online.com/catalog/datasheet/620106131822.pdf; Pitch: 2mm; Published Date: January 2020; Publisher: Wurth Elektronik; Mounting Technology: SMT; Packaging: Tape and Reel; Operating Temperature: -25 to +85degC; Gender: Male; Type: Horizontal; Rated Current: 2A; ComponentLink3Description: Global Supply; ComponentLink3URL: https://www.we-online.com/en/components/products/WTB_2_00_SMT_MALE_HORIZONTAL_SHROUDED_HEADER_6201XX131822?sq=620106131822#620106131822; Parameter 1: *; Parameter 2: *; Parameter 3: *; Supplier 1 Name: Mouser; Supplier 1 SN: N/A; Supplier 1 URL: N/A; Supplier 2 Name: Digi-Key; Supplier 2 SN: N/A; Supplier 2 URL: N/A; Supplier 3 Name: thegioiic; Supplier 3 SN: N/A; Supplier 3 URL: N/A; Value: 2A, 125V(AC)
footprint 620106131822
pins: 1, 2, 3, 4, 5, 6

## 620107131822
designator P?, comment 2A, 125V(AC)
WR-WTB SMT Male Horizontal Shrouded Header, pitch 2mm, 7p; Part Number: 620107131822; Pin Number: 7; Contact Resistance: 20mOhm; Withstanding Voltage: 800VAC; Working Voltage: 100VAC; ComponentLink1Description: Manufacturer; ComponentLink1URL: http://www.we-online.de; ComponentLink2Description: Datasheet; ComponentLink2URL: https://www.we-online.com/catalog/datasheet/620107131822.pdf; Pitch: 2mm; Published Date: January 2020; Publisher: Wurth Elektronik; Mounting Technology: SMT; Packaging: Tape and Reel; Operating Temperature: -25 to +85degC; Gender: Male; Type: Horizontal; Rated Current: 2A; ComponentLink3Description: Global Supply; ComponentLink3URL: https://www.we-online.com/en/components/products/WTB_2_00_SMT_MALE_HORIZONTAL_SHROUDED_HEADER_6201XX131822?sq=620107131822#620107131822; Supplier 1 Name: Mouser; Supplier 1 SN: N/A; Supplier 1 URL: N/A; Supplier 2 Name: Digi-Key; Supplier 2 SN: N/A; Supplier 2 URL: N/A; Supplier 3 Name: thegioiic; Supplier 3 SN: N/A; Supplier 3 URL: N/A; Value: 2A, 125V(AC)
footprint 620107131822
pins: 1, 2, 3, 4, 5, 6, 7

## 620108131822
designator P?, comment 2A, 125V(AC)
WR-WTB SMT Male Horizontal Shrouded Header, pitch 2mm, 8p; Part Number: 620108131822; Pin Number: 8; Contact Resistance: 20mOhm; Withstanding Voltage: 800VAC; Working Voltage: 100VAC; ComponentLink1Description: Manufacturer; ComponentLink1URL: http://www.we-online.de; ComponentLink2Description: Datasheet; ComponentLink2URL: https://www.we-online.com/catalog/datasheet/620108131822.pdf; Pitch: 2mm; Published Date: January 2020; Publisher: Wurth Elektronik; Mounting Technology: SMT; Packaging: Tape and Reel; Operating Temperature: -25 to +85degC; Gender: Male; Type: Horizontal; Rated Current: 2A; ComponentLink3Description: Global Supply; ComponentLink3URL: https://www.we-online.com/en/components/products/WTB_2_00_SMT_MALE_HORIZONTAL_SHROUDED_HEADER_6201XX131822?sq=620108131822#620108131822; Supplier 1 Name: Mouser; Supplier 1 SN: N/A; Supplier 1 URL: N/A; Supplier 2 Name: Digi-Key; Supplier 2 SN: N/A; Supplier 2 URL: N/A; Supplier 3 Name: thegioiic; Supplier 3 SN: N/A; Supplier 3 URL: N/A; Value: 2A, 125V(AC)
footprint 620108131822
pins: 1, 2, 3, 4, 5, 6, 7, 8

## 620109131822
designator P?, comment 2A, 125V(AC)
WR-WTB SMT Male Horizontal Shrouded Header, pitch 2mm, 9p; Part Number: 620109131822; Pin Number: 9; Contact Resistance: 20mOhm; Withstanding Voltage: 800VAC; Working Voltage: 100VAC; ComponentLink1Description: Manufacturer; ComponentLink1URL: http://www.we-online.de; ComponentLink2Description: Datasheet; ComponentLink2URL: https://www.we-online.com/catalog/datasheet/620109131822.pdf; Pitch: 2mm; Published Date: January 2020; Publisher: Wurth Elektronik; Mounting Technology: SMT; Packaging: Tape and Reel; Operating Temperature: -25 to +85degC; Gender: Male; Type: Horizontal; Rated Current: 2A; ComponentLink3Description: Global Supply; ComponentLink3URL: https://www.we-online.com/en/components/products/WTB_2_00_SMT_MALE_HORIZONTAL_SHROUDED_HEADER_6201XX131822?sq=620109131822#620109131822; Supplier 1 Name: Mouser; Supplier 1 SN: N/A; Supplier 1 URL: N/A; Supplier 2 Name: Digi-Key; Supplier 2 SN: N/A; Supplier 2 URL: N/A; Supplier 3 Name: thegioiic; Supplier 3 SN: N/A; Supplier 3 URL: N/A; Value: 2A, 125V(AC)
footprint 620109131822
pins: 1, 2, 3, 4, 5, 6, 7, 8, 9

## 620110131822
designator P?, comment 2A, 125V(AC)
WR-WTB SMT Male Horizontal Shrouded Header, pitch 2mm, 10p; Part Number: 620110131822; Pin Number: 10; Contact Resistance: 20mOhm; Withstanding Voltage: 800VAC; Working Voltage: 100VAC; ComponentLink1Description: Manufacturer; ComponentLink1URL: http://www.we-online.de; ComponentLink2Description: Datasheet; ComponentLink2URL: https://www.we-online.com/catalog/datasheet/620110131822.pdf; Pitch: 2mm; Published Date: January 2020; Publisher: Wurth Elektronik; Mounting Technology: SMT; Packaging: Tape and Reel; Operating Temperature: -25 to +85degC; Gender: Male; Type: Horizontal; Rated Current: 2A; ComponentLink3Description: Global Supply; ComponentLink3URL: https://www.we-online.com/en/components/products/WTB_2_00_SMT_MALE_HORIZONTAL_SHROUDED_HEADER_6201XX131822?sq=620110131822#620110131822; Supplier 1 Name: Mouser; Supplier 1 SN: N/A; Supplier 1 URL: N/A; Supplier 2 Name: Digi-Key; Supplier 2 SN: N/A; Supplier 2 URL: N/A; Supplier 3 Name: thegioiic; Supplier 3 SN: N/A; Supplier 3 URL: N/A; Value: 2A, 125V(AC)
footprint 620110131822
pins: 1, 2, 3, 4, 5, 6, 7, 8, 9, 10

## 620302124022
designator P?, comment 2A, 125V(AC)
WR-WTB SMT Male Vertical Shrouded Header, pitch 2mm, 2p; Part Number: 620302124022; Pin Number: 2; Contact Resistance: 20mOhm; Withstanding Voltage: 800VAC; Working Voltage: 100VAC; ComponentLink1Description: Manufacturer; ComponentLink1URL: http://www.we-online.de; ComponentLink2Description: Datasheet; ComponentLink2URL: https://www.we-online.com/catalog/datasheet/620302124022.pdf; Pitch: 2mm; Published Date: January 2020; Publisher: Wurth Elektronik; Mounting Technology: SMT; Packaging: Tape and Reel; Operating Temperature: -25 to +85degC; Gender: Male; Type: Vertical; Rated Current: 2A; ComponentLink3Description: Global Supply; ComponentLink3URL: https://www.we-online.com/en/components/products/WTB_2_00_SMT_MALE_VERTICAL_SHROUDED_HEADER_6203XX124022?sq=620302124022#620302124022; ComponentLink4Description: Global Supply; ComponentLink4URL: https://www.mouser.vn/ProductDetail/Wurth-Elektronik/620302124022?qs=ZtY9WdtwX56bKCHoSxh6%252Bg%3D%3D; Supplier 1 Name: Mouser; Supplier 1 SN: 710-620302124022; Supplier 1 URL: https://www.mouser.vn/ProductDetail/Wurth-Elektronik/620302124022?qs=ZtY9WdtwX56bKCHoSxh6%252Bg%3D%3D; Supplier 2 Name: Digi-Key; Supplier 2 SN: N/A; Supplier 2 URL: N/A; Supplier 3 Name: thegioiic; Supplier 3 SN: N/A; Supplier 3 URL: N/A; Value: 2A, 125V(AC)
footprint 620302124022
pins: 1, 2

## 620303124022
designator P?, comment 2A, 125V(AC)
WR-WTB SMT Male Vertical Shrouded Header, pitch 2mm, 3p; Part Number: 620303124022; Pin Number: 3; Contact Resistance: 20mOhm; Withstanding Voltage: 800VAC; Working Voltage: 100VAC; ComponentLink1Description: Manufacturer; ComponentLink1URL: http://www.we-online.de; ComponentLink2Description: Datasheet; ComponentLink2URL: https://www.we-online.com/catalog/datasheet/620303124022.pdf; Pitch: 2mm; Published Date: January 2020; Publisher: Wurth Elektronik; Mounting Technology: SMT; Packaging: Tape and Reel; Operating Temperature: -25 to +85degC; Gender: Male; Type: Vertical; Rated Current: 2A; ComponentLink3Description: Global Supply; ComponentLink3URL: https://www.we-online.com/en/components/products/WTB_2_00_SMT_MALE_VERTICAL_SHROUDED_HEADER_6203XX124022?sq=620303124022#620303124022; ComponentLink4Description: Global Supply; ComponentLink4URL: https://www.mouser.vn/ProductDetail/Wurth-Elektronik/620303124022?qs=ZtY9WdtwX56nfsQQN0YNwg%3D%3D; Supplier 1 Name: Mouser; Supplier 1 SN: 710-620303124022; Supplier 1 URL: https://www.mouser.vn/ProductDetail/Wurth-Elektronik/620303124022?qs=ZtY9WdtwX56nfsQQN0YNwg%3D%3D; Supplier 2 Name: Digi-Key; Supplier 2 SN: N/A; Supplier 2 URL: N/A; Supplier 3 Name: thegioiic; Supplier 3 SN: N/A; Supplier 3 URL: N/A; Value: 2A, 125V(AC)
footprint 620303124022
pins: 1, 2, 3

## 620304124022
designator P?, comment 2A, 125V(AC)
WR-WTB SMT Male Vertical Shrouded Header, pitch 2mm, 4p; Part Number: 620304124022; Pin Number: 4; Contact Resistance: 20mOhm; Withstanding Voltage: 800VAC; Working Voltage: 100VAC; ComponentLink1Description: Manufacturer; ComponentLink1URL: http://www.we-online.de; ComponentLink2Description: Datasheet; ComponentLink2URL: https://www.we-online.com/catalog/datasheet/620304124022.pdf; Pitch: 2mm; Published Date: January 2020; Publisher: Wurth Elektronik; Mounting Technology: SMT; Packaging: Tape and Reel; Operating Temperature: -25 to +85degC; Gender: Male; Type: Vertical; Rated Current: 2A; ComponentLink3Description: Global Supply; ComponentLink3URL: https://www.we-online.com/en/components/products/WTB_2_00_SMT_MALE_VERTICAL_SHROUDED_HEADER_6203XX124022?sq=620304124022#620304124022; ComponentLink4Description: Global Supply; ComponentLink4URL: https://www.mouser.vn/ProductDetail/Wurth-Elektronik/620304124022?qs=ZtY9WdtwX5729BhN8GzI6w%3D%3D; Supplier 1 Name: Mouser; Supplier 1 SN: 710-620304124022; Supplier 1 URL: https://www.mouser.vn/ProductDetail/Wurth-Elektronik/620304124022?qs=ZtY9WdtwX5729BhN8GzI6w%3D%3D; Supplier 2 Name: Digi-Key; Supplier 2 SN: N/A; Supplier 2 URL: N/A; Supplier 3 Name: thegioiic; Supplier 3 SN: N/A; Supplier 3 URL: N/A; Value: 2A, 125V(AC)
footprint 620304124022
pins: 1, 2, 3, 4

## 620305124022
designator P?, comment 2A, 125V(AC)
WR-WTB SMT Male Vertical Shrouded Header, pitch 2mm, 5p; Part Number: 620305124022; Pin Number: 5; Contact Resistance: 20mOhm; Withstanding Voltage: 800VAC; Working Voltage: 100VAC; ComponentLink1Description: Manufacturer; ComponentLink1URL: http://www.we-online.de; ComponentLink2Description: Datasheet; ComponentLink2URL: https://www.we-online.com/catalog/datasheet/620305124022.pdf; Pitch: 2mm; Published Date: January 2020; Publisher: Wurth Elektronik; Mounting Technology: SMT; Packaging: Tape and Reel; Operating Temperature: -25 to +85degC; Gender: Male; Type: Vertical; Rated Current: 2A; ComponentLink3Description: Global Supply; ComponentLink3URL: https://www.we-online.com/en/components/products/WTB_2_00_SMT_MALE_VERTICAL_SHROUDED_HEADER_6203XX124022?sq=620305124022#620305124022; ComponentLink4Description: Global Supply; ComponentLink4URL: https://www.mouser.vn/ProductDetail/Wurth-Elektronik/620305124022?qs=ZtY9WdtwX57L3DNzMAlKTg%3D%3D; Supplier 1 Name: Mouser; Supplier 1 SN: 710-620305124022; Supplier 1 URL: https://www.mouser.vn/ProductDetail/Wurth-Elektronik/620305124022?qs=ZtY9WdtwX57L3DNzMAlKTg%3D%3D; Supplier 2 Name: Digi-Key; Supplier 2 SN: N/A; Supplier 2 URL: N/A; Supplier 3 Name: thegioiic; Supplier 3 SN: N/A; Supplier 3 URL: N/A; Value: 2A, 125V(AC)
footprint 620305124022
pins: 1, 2, 3, 4, 5

## 620306124022
designator P?, comment 2A, 125V(AC)
WR-WTB SMT Male Vertical Shrouded Header, pitch 2mm, 6p; Part Number: 620306124022; Pin Number: 6; Contact Resistance: 20mOhm; Withstanding Voltage: 800VAC; Working Voltage: 100VAC; ComponentLink1Description: Manufacturer; ComponentLink1URL: http://www.we-online.de; ComponentLink2Description: Datasheet; ComponentLink2URL: https://www.we-online.com/catalog/datasheet/620306124022.pdf; Pitch: 2mm; Published Date: January 2020; Publisher: Wurth Elektronik; Mounting Technology: SMT; Packaging: Tape and Reel; Operating Temperature: -25 to +85degC; Gender: Male; Type: Vertical; Rated Current: 2A; ComponentLink3Description: Global Supply; ComponentLink3URL: https://www.we-online.com/en/components/products/WTB_2_00_SMT_MALE_VERTICAL_SHROUDED_HEADER_6203XX124022?sq=620306124022#620306124022; Supplier 1 Name: Mouser; Supplier 1 SN: N/A; Supplier 1 URL: N/A; Supplier 2 Name: Digi-Key; Supplier 2 SN: N/A; Supplier 2 URL: N/A; Supplier 3 Name: thegioiic; Supplier 3 SN: N/A; Supplier 3 URL: N/A; Value: 2A, 125V(AC)
footprint 620306124022
pins: 1, 2, 3, 4, 5, 6

## 620307124022
designator P?, comment 2A, 125V(AC)
WR-WTB SMT Male Vertical Shrouded Header, pitch 2mm, 7p; Part Number: 620307124022; Pin Number: 7; Contact Resistance: 20mOhm; Withstanding Voltage: 800VAC; Working Voltage: 100VAC; ComponentLink1Description: Manufacturer; ComponentLink1URL: http://www.we-online.de; ComponentLink2Description: Datasheet; ComponentLink2URL: https://www.we-online.com/catalog/datasheet/620307124022.pdf; Pitch: 2mm; Published Date: January 2020; Publisher: Wurth Elektronik; Mounting Technology: SMT; Packaging: Tape and Reel; Operating Temperature: -25 to +85degC; Gender: Male; Type: Vertical; Rated Current: 2A; ComponentLink3Description: Global Supply; ComponentLink3URL: https://www.we-online.com/en/components/products/WTB_2_00_SMT_MALE_VERTICAL_SHROUDED_HEADER_6203XX124022?sq=620307124022#620307124022; Supplier 1 Name: Mouser; Supplier 1 SN: N/A; Supplier 1 URL: N/A; Supplier 2 Name: Digi-Key; Supplier 2 SN: N/A; Supplier 2 URL: N/A; Supplier 3 Name: thegioiic; Supplier 3 SN: N/A; Supplier 3 URL: N/A; Value: 2A, 125V(AC)
footprint 620307124022
pins: 1, 2, 3, 4, 5, 6, 7

## 620308124022
designator P?, comment 2A, 125V(AC)
WR-WTB SMT Male Vertical Shrouded Header, pitch 2mm, 8p; Part Number: 620308124022; Pin Number: 8; Contact Resistance: 20mOhm; Withstanding Voltage: 800VAC; Working Voltage: 100VAC; ComponentLink1Description: Manufacturer; ComponentLink1URL: http://www.we-online.de; ComponentLink2Description: Datasheet; ComponentLink2URL: https://www.we-online.com/catalog/datasheet/620308124022.pdf; Pitch: 2mm; Published Date: January 2020; Publisher: Wurth Elektronik; Mounting Technology: SMT; Packaging: Tape and Reel; Operating Temperature: -25 to +85degC; Gender: Male; Type: Vertical; Rated Current: 2A; ComponentLink3Description: Global Supply; ComponentLink3URL: https://www.we-online.com/en/components/products/WTB_2_00_SMT_MALE_VERTICAL_SHROUDED_HEADER_6203XX124022?sq=620308124022#620308124022; Supplier 1 Name: Mouser; Supplier 1 SN: N/A; Supplier 1 URL: N/A; Supplier 2 Name: Digi-Key; Supplier 2 SN: N/A; Supplier 2 URL: N/A; Supplier 3 Name: thegioiic; Supplier 3 SN: N/A; Supplier 3 URL: N/A; Value: 2A, 125V(AC)
footprint 620308124022
pins: 1, 2, 3, 4, 5, 6, 7, 8

## 620309124022
designator P?, comment 2A, 125V(AC)
WR-WTB SMT Male Vertical Shrouded Header, pitch 2mm, 9p; Part Number: 620309124022; Pin Number: 9; Contact Resistance: 20mOhm; Withstanding Voltage: 800VAC; Working Voltage: 100VAC; ComponentLink1Description: Manufacturer; ComponentLink1URL: http://www.we-online.de; ComponentLink2Description: Datasheet; ComponentLink2URL: https://www.we-online.com/catalog/datasheet/620309124022.pdf; Pitch: 2mm; Published Date: January 2020; Publisher: Wurth Elektronik; Mounting Technology: SMT; Packaging: Tape and Reel; Operating Temperature: -25 to +85degC; Gender: Male; Type: Vertical; Rated Current: 2A; ComponentLink3Description: Global Supply; ComponentLink3URL: https://www.we-online.com/en/components/products/WTB_2_00_SMT_MALE_VERTICAL_SHROUDED_HEADER_6203XX124022?sq=620309124022#620309124022; Supplier 1 Name: Mouser; Supplier 1 SN: N/A; Supplier 1 URL: N/A; Supplier 2 Name: Digi-Key; Supplier 2 SN: N/A; Supplier 2 URL: N/A; Supplier 3 Name: thegioiic; Supplier 3 SN: N/A; Supplier 3 URL: N/A; Value: 2A, 125V(AC)
footprint 620309124022
pins: 1, 2, 3, 4, 5, 6, 7, 8, 9

## 620310124022
designator P?, comment 2A, 125V(AC)
WR-WTB SMT Male Vertical Shrouded Header, pitch 2mm, 10p; Part Number: 620310124022; Pin Number: 10; Contact Resistance: 20mOhm; Withstanding Voltage: 800VAC; Working Voltage: 100VAC; ComponentLink1Description: Manufacturer; ComponentLink1URL: http://www.we-online.de; ComponentLink2Description: Datasheet; ComponentLink2URL: https://www.we-online.com/catalog/datasheet/620310124022.pdf; Pitch: 2mm; Published Date: January 2020; Publisher: Wurth Elektronik; Mounting Technology: SMT; Packaging: Tape and Reel; Operating Temperature: -25 to +85degC; Gender: Male; Type: Vertical; Rated Current: 2A; ComponentLink3Description: Global Supply; ComponentLink3URL: https://www.we-online.com/en/components/products/WTB_2_00_SMT_MALE_VERTICAL_SHROUDED_HEADER_6203XX124022?sq=620310124022#620310124022; Supplier 1 Name: Mouser; Supplier 1 SN: N/A; Supplier 1 URL: N/A; Supplier 2 Name: Digi-Key; Supplier 2 SN: N/A; Supplier 2 URL: N/A; Supplier 3 Name: thegioiic; Supplier 3 SN: N/A; Supplier 3 URL: N/A; Value: 2A, 125V(AC)
footprint 620310124022
pins: 1, 2, 3, 4, 5, 6, 7, 8, 9, 10